# EAGLE library part KENTEC_TFT_LCD_4.3_INCH (library usevolt)
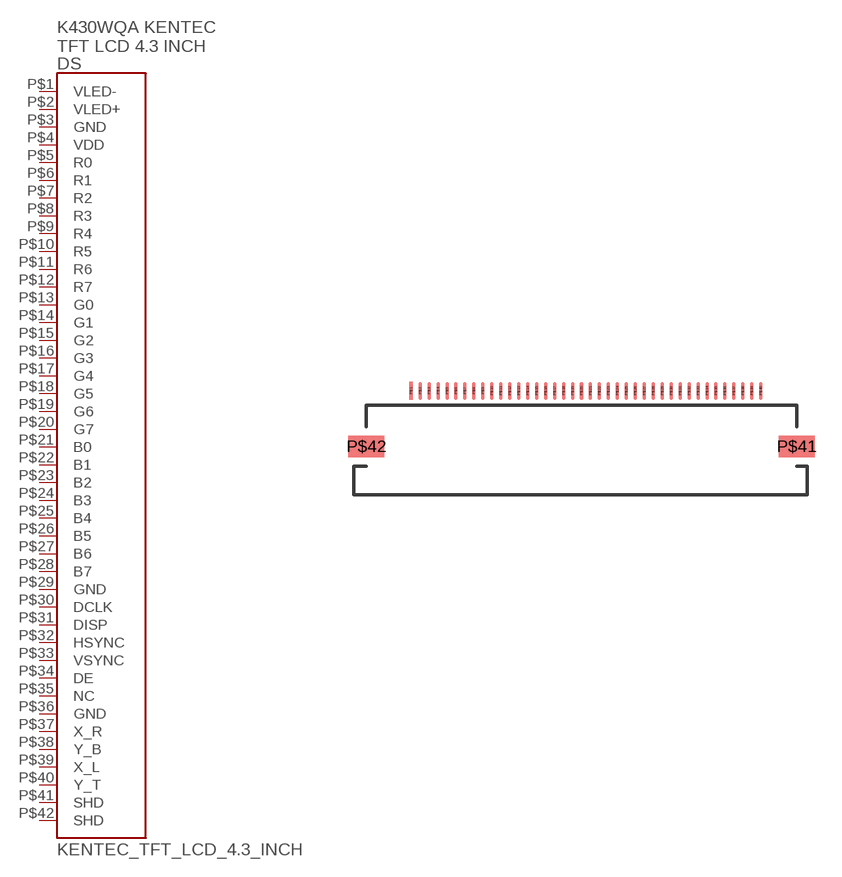
[diagram p26: symbol with the pads of HEADER_KENTEC_TFT_LCD_4.3_INCH; footprint HEADER_KENTEC_TFT_LCD_4.3_INCH]

Designator prefix DS

## KENTEC_TFT_LCD_4.3_INCHSMD  [HEADER_KENTEC_TFT_LCD_4.3_INCH]
P$1  VLED-
P$2  VLED+
P$3  GND
P$4  VDD
P$5  R0
P$6  R1
P$7  R2
P$8  R3
P$9  R4
P$10  R5
P$11  R6
P$12  R7
P$13  G0
P$14  G1
P$15  G2
P$16  G3
P$17  G4
P$18  G5
P$19  G6
P$20  G7
P$21  B0
P$22  B1
P$23  B2
P$24  B3
P$25  B4
P$26  B5
P$27  B6
P$28  B7
P$29  GND
P$30  DCLK
P$31  DISP
P$32  HSYNC
P$33  VSYNC
P$34  DE
P$35  NC
P$36  GND
P$37  X_R
P$38  Y_B
P$39  X_L
P$40  Y_T
P$41  SHD
P$42  SHD

## Footprint HEADER_KENTEC_TFT_LCD_4.3_INCH (pad centres in mm)
smd 0.2 x 1: P$1 -9.5,0.3; P$2 -9,0.3; P$3 -8.5,0.3; P$4 -8,0.3; P$5 -7.5,0.3; P$6 -7,0.3; P$7 -6.5,0.3; P$8 -6,0.3; P$9 -5.5,0.3; P$10 -5,0.3; P$11 -4.5,0.3; P$12 -4,0.3; P$13 -3.5,0.3; P$14 -3,0.3; P$15 -2.5,0.3; P$16 -2,0.3; P$17 -1.5,0.3; P$18 -1,0.3; P$19 -0.5,0.3; P$20 0,0.3; P$21 0.5,0.3; P$22 1,0.3; P$23 1.5,0.3; P$24 2,0.3; P$25 2.5,0.3; P$26 3,0.3; P$27 3.5,0.3; P$28 4,0.3; P$29 4.5,0.3; P$30 5,0.3; P$31 5.5,0.3; P$32 6,0.3; P$33 6.5,0.3; P$34 7,0.3; P$35 7.5,0.3; P$36 8,0.3; P$37 8.5,0.3; P$38 9,0.3; P$39 9.5,0.3; P$40 10,0.3
smd 2 x 1.2: P$41 12,-2.8; P$42 -12,-2.8